# Altium schematic symbol library Watch-Schlib.SchLib: 14 symbols
Pins are listed as number, name and electrical type; pins without a type are passive.

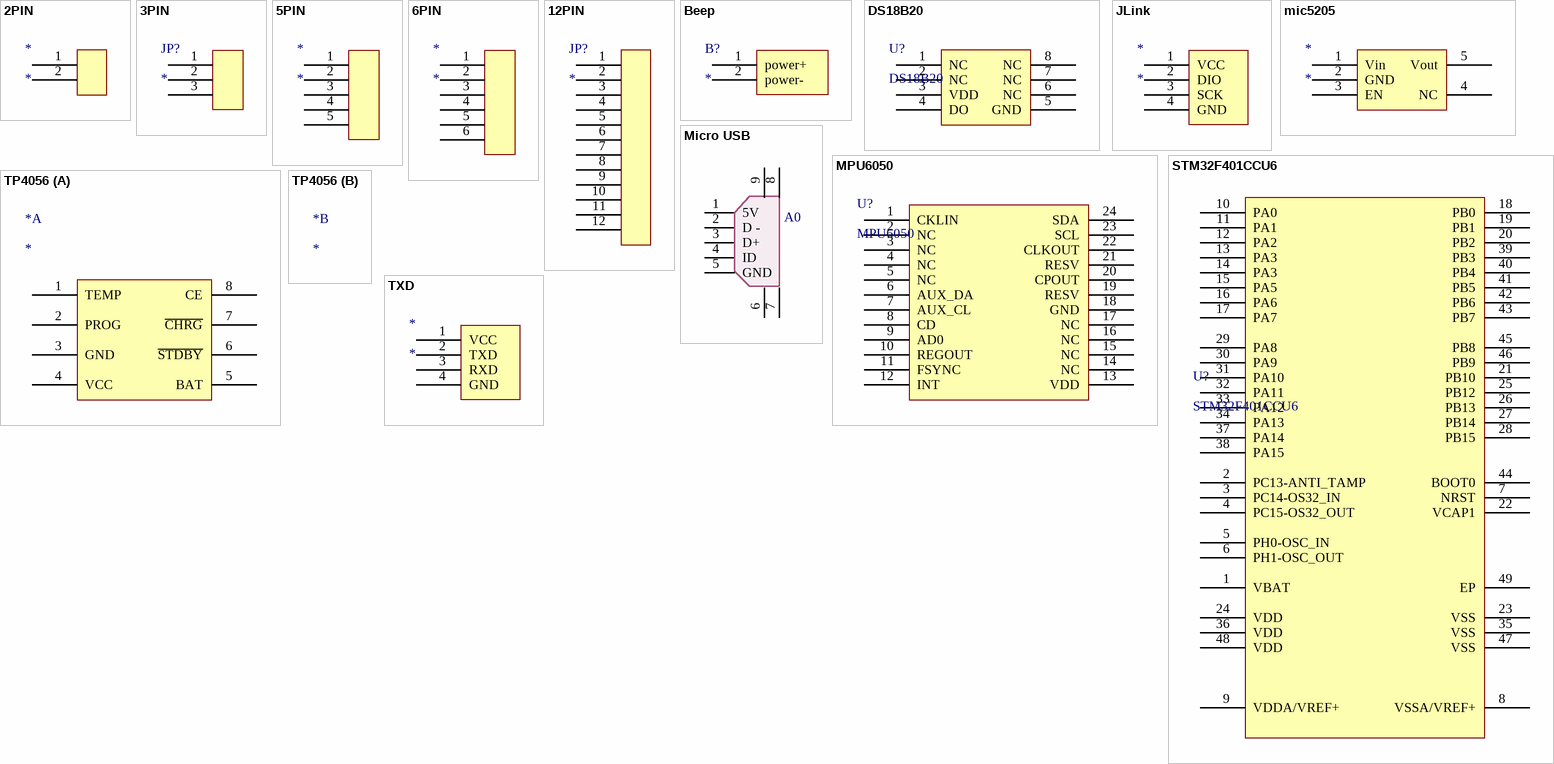
[diagram p0: symbols 2PIN to TXD]

## 2PIN
designator *
footprint 2PIN
pins: 1, 2

## 3PIN
designator JP?
footprint 3pin
pins: 1, 2, 3

## 5PIN
designator *
footprint 5PIN
pins: 1, 2, 3, 4, 5

## 6PIN
designator *
footprint 6PIN
pins: 1, 2, 3, 4, 5, 6

## 12PIN
designator JP?
footprint 12PIN
pins: 1, 2, 3, 4, 5, 6, 7, 8, 9, 10, 11, 12

## Beep
designator B?
footprint 5020beep
pins: 1 power+, 2 power-

## DS18B20
designator U?
footprint SOP8 (（蒜米工坊）)
pins: 1 NC, 2 NC, 3 VDD, 4 DO, 5 GND, 6 NC, 7 NC, 8 NC

## JLink
designator *
pins: 1 VCC, 2 DIO, 3 SCK, 4 GND

## mic5205
designator *
pins: 1 Vin, 2 GND, 3 EN, 4 NC, 5 Vout

## Micro USB
designator A0  (value not drawn)
footprint USB-micro_A (micro型USB ，5.7*7.8*2.5mm)
pins: 1 5V, 2 D -, 3 D+, 4 ID , 5 GND, 6, 7, 8, 9

## MPU6050
designator U?
footprint QFN24 (4mm*4mm（蒜米工坊）)
footprint QFN24 4x4_M (24脚，长x宽x高：4x4x1mm，脚距：0.5mm)
pins: 1 CKLIN, 2 NC, 3 NC, 4 NC, 5 NC, 6 AUX_DA, 7 AUX_CL, 8 CD, 9 AD0, 10 REGOUT, 11 FSYNC, 12 INT, 13 VDD, 14 NC, 15 NC, 16 NC, 17 NC, 18 GND, 19 RESV, 20 CPOUT, 21 RESV, 22 CLKOUT, 23 SCL, 24 SDA

## STM32F401CCU6
designator U?
footprint QFN48 7X7_M (48脚，长x宽x高：7x7x1mm，脚距：0.5mm)
pins: 1 VBAT, 2 PC13-ANTI_TAMP, 3 PC14-OS32_IN, 4 PC15-OS32_OUT, 5 PH0-OSC_IN, 6 PH1-OSC_OUT, 7 NRST, 8 VSSA/VREF+, 9 VDDA/VREF+, 10 PA0, 11 PA1, 12 PA2, 13 PA3, 14 PA3, 15 PA5, 16 PA6, 17 PA7, 18 PB0, 19 PB1, 20 PB2, 21 PB10, 22 VCAP1, 23 VSS, 24 VDD, 25 PB12, 26 PB13, 27 PB14, 28 PB15, 29 PA8, 30 PA9, 31 PA10, 32 PA11, 33 PA12, 34 PA13, 35 VSS, 36 VDD, 37 PA14, 38 PA15, 39 PB3, 40 PB4, 41 PB5, 42 PB6, 43 PB7, 44 BOOT0, 45 PB8, 46 PB9, 47 VSS, 48 VDD, 49 EP

## TP4056
designator *
footprint SOP8 (（蒜米工坊）)
part A pins: 1 TEMP, 2 PROG, 3 GND, 4 VCC, 5 BAT, 6 ~{STDB}~{Y}, 7 ~{CHRG}, 8 CE

## TXD
designator *
pins: 1 VCC, 2 TXD, 3 RXD, 4 GND